# Altium footprint library CAPPRD250W45D630H700.PcbLib: 1 footprints
Each footprint in its own frame and in the unit in brackets; x right, y up, seen from the top. Pads: shape width x height; smd on the part's side, far side on the other; paste and mask are expansions set on the pad; w line width, h text height; cw(c..) or ccw(c..) is an arc to the next point about the centre after c.
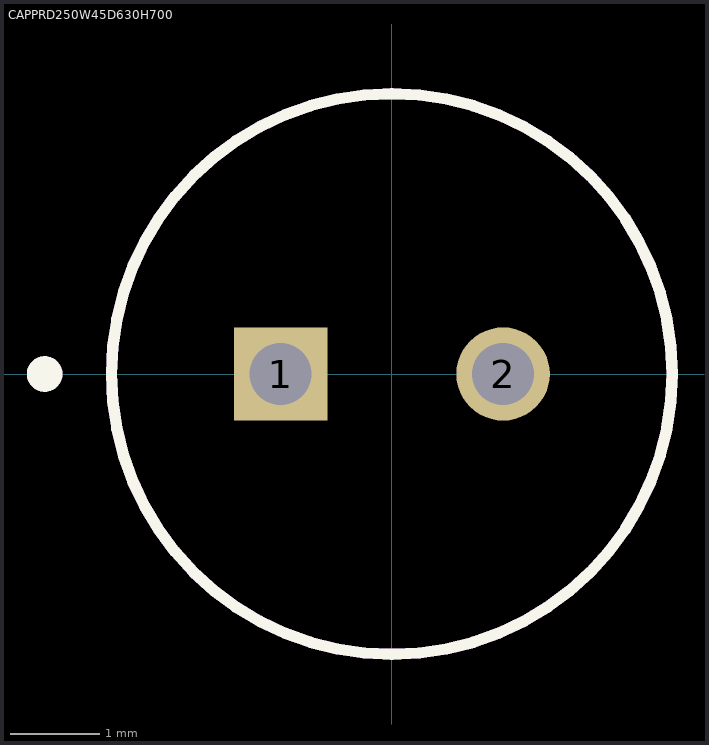
[diagram p0: the footprint, top view; thin cyan lines are the x and y axes]

## CAPPRD250W45D630H700 [mm]
pads (2):
  rect 1.05x1.05 hole 0.7: 1(-1.25,0)
  round 1.05 hole 0.7: 2(1.25,0)
Top Overlay:
  circle w0.2: c-3.9,0 r0.1
  circle w0.127: c0,0 r3.15
Mechanical 13:
  circle w0.2: c-3.9,0 r0.1
  circle w0.127: c0,0 r3.15